# Altium footprint library SPM6530T.PcbLib: 2 footprints
Each footprint in its own frame and in the unit in brackets; x right, y up, seen from the top. Pads: shape width x height; smd on the part's side, far side on the other; paste and mask are expansions set on the pad; w line width, h text height; cw(c..) or ccw(c..) is an arc to the next point about the centre after c.
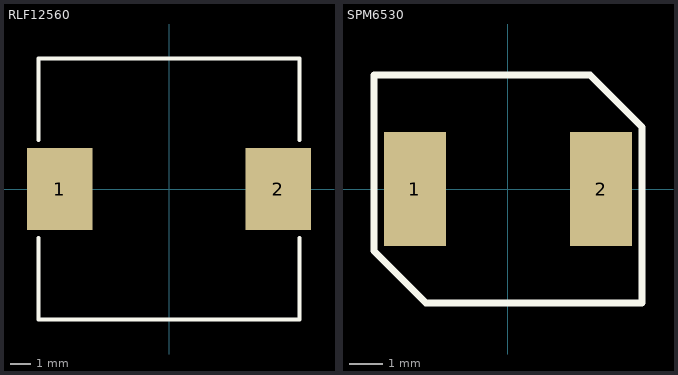
[diagram p0: the footprints below, top view; thin cyan lines are the x and y axes]

## RLF12560 [mm]
pads (2):
  rect 3.2x4 smd: 1(-5.35,0) 2(5.35,0)
Top Overlay:
  lines w0.2: -6.4,-2.4 -6.4,-6.4 6.4,-6.4 6.4,-2.4 ; -6.4,2.4 -6.4,6.4 6.4,6.4 6.4,2.4
3D body: height 6, standoff 0, extent -6.5,-6.5 6.5,6.5

## SPM6530 [mm]
pads (2):
  rect 1.85x3.4 smd: 1(-2.775,0) 2(2.775,0)
Top Overlay:
  lines w0.2: -4,-1.85 -4,3.4 2.45,3.4 4,1.85 4,-3.4 -2.45,-3.4 -4,-1.85